# EAGLE library part MAX845 (library 1)
MAX845 Isolated Transformer Driver for PCMCIA Applications
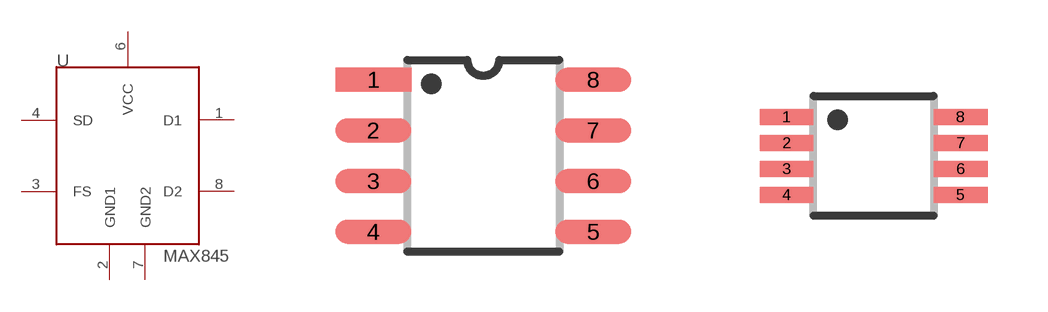
[diagram p58: symbol with the pads of SOIC-8; footprints SOIC-8, UMAX8]

Designator prefix U

## MAX845ESA  [SOIC-8]
1  D1
2  GND1
3  FS
4  SD
6  VCC
7  GND2
8  D2

## MAX845EUA  [UMAX8]
Pads as for SOIC-8

## Footprint SOIC-8 (pad centres in mm)
SOIC-8
smd 1.9 x 0.6: 1 -2.75,1.905; 2 -2.75,0.635; 3 -2.75,-0.635; 4 -2.75,-1.905; 5 2.75,-1.905; 6 2.75,-0.635; 7 2.75,0.635; 8 2.75,1.905

## Footprint UMAX8 (pad centres in mm)
Maxim uMAX Package (uSOP) Outline: 21-0036 <pdfserv.maxim-ic.com/package_dwgs/21-0036.PDF> Footprint: 90-0092 <pdfserv.maxim-ic.com/land_patterns/90-0092.PDF>
smd 1.35 x 0.4: 1 -2.175,0.975; 2 -2.175,0.325; 3 -2.175,-0.325; 4 -2.175,-0.975; 5 2.175,-0.975; 6 2.175,-0.325; 7 2.175,0.325; 8 2.175,0.975